# Altium footprint library PcbLib1.PcbLib: 8 footprints
Each footprint in its own frame and in the unit in brackets; x right, y up, seen from the top. Pads: shape width x height; smd on the part's side, far side on the other; paste and mask are expansions set on the pad; w line width, h text height; cw(c..) or ccw(c..) is an arc to the next point about the centre after c.
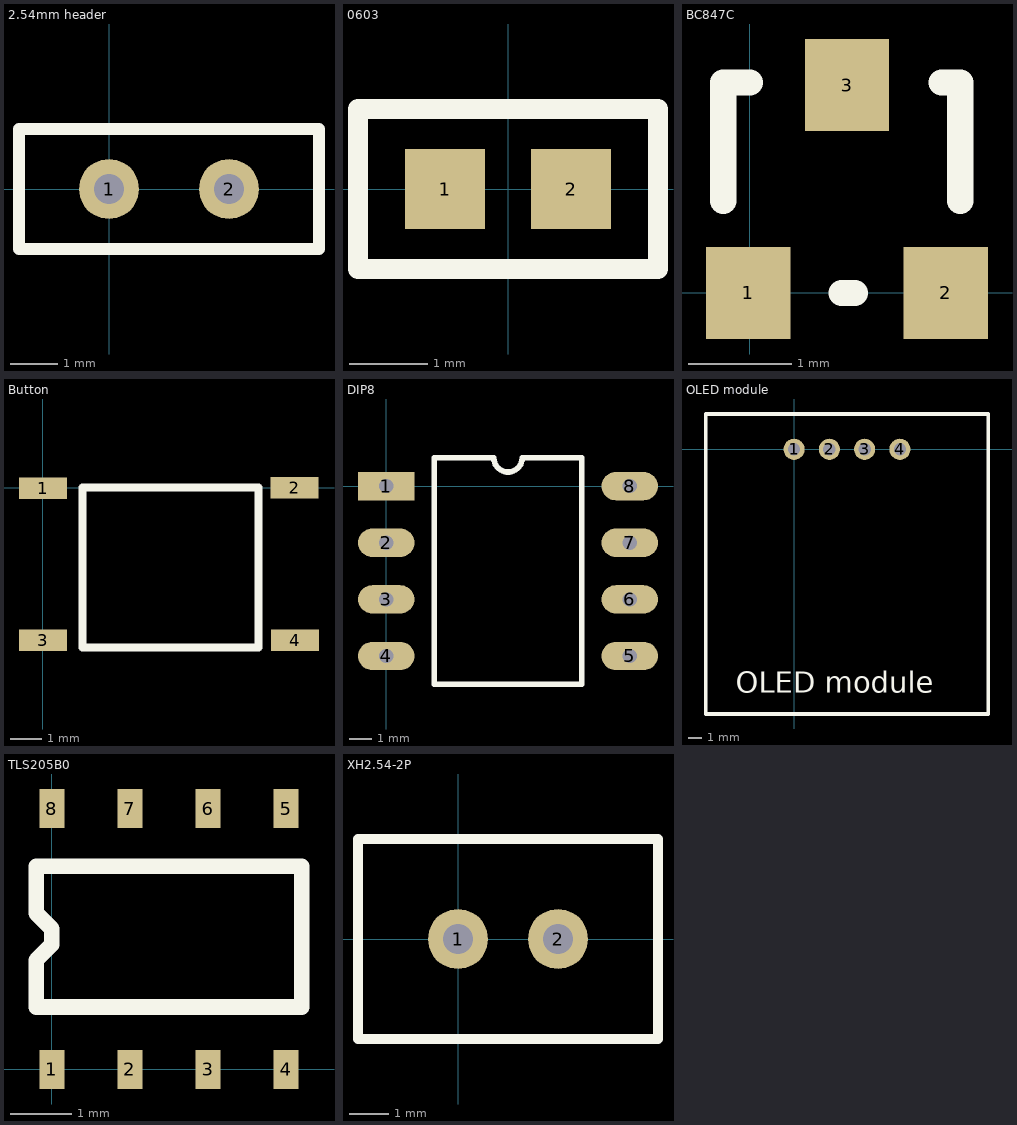
[diagram p0: the footprints below, top view; thin cyan lines are the x and y axes]

## 2.54mm header [mil]
pads (2):
  round 50 hole 25: 1(0,0) 2(100,0)
Top Overlay:
  lines w10: -75,-50 -75,50 175,50 175,-50 -75,-50

## 0603 [mil]
pads (2):
  rect 40x40 smd: 1(-31.5,0) 2(31.5,0)
Top Overlay:
  lines w10: -75,-40 75,-40 75,40 -75,40 -75,-6.5 -75,-40

## BC847C [mil] "https://jlcpcb.com/partdetail/Hongjiacheng-BC847C/C7420337"
pads (3):
  rect 32x35 smd paste-99999 mask+4: 1(-0.5,0) 2(74.5,0) 3(37,79)
Top Overlay:
  lines w10: -10,35 -10,80 0,80 ; 35,0 40,0 ; 73,80 80,80 80,35

## Button [mil] "https://jlcpcb.com/partdetail/Yiyuan-YTS1R0032CBG00/C3001435"
pads (4):
  rect 60x27 smd paste-99999 mask+4: 1(0.41,-0.96) 2(315,0) 3(0.41,-190.96) 4(315.41,-190.96)
Top Overlay:
  lines w10: 50,-200 270,-200 270,0 50,0 50,-200

## DIP8 [mil]
pads (8):
  rect 100x50 hole 25: 1(0,0)
  oval 100x50 hole 25: 2(0,-100) 3(0,-200) 4(0,-300) 5(430,-300) 6(430,-200) 7(430,-100) 8(430,0)
Top Overlay:
  lines w10: 85,-350 345,-350 345,50 240,50 cw(c215,50) 190,50 85,50 85,-350

## OLED module [mil]
pads (4):
  round 60 hole 35: 1(0,0) 2(100,0) 3(200,0) 4(300,0)
Top Overlay:
  lines w10: -250,-750 550,-750 550,100 -250,100 -250,-750
  text "OLED module" at -165,-690 h60

## TLS205B0 [mil] "https://wmsc.lcsc.com/wmsc/upload/file/pdf/v2/lcsc/2401161412_Infineon-Technologies-TLS205B0EJV50XUMA1_C3747247.pdf"
pads (8):
  rect 16x25 smd paste-99999 mask+4: 1(0,0) 2(50,0) 3(100,0) 4(150,0) 5(150,167) 6(100,167) 7(50,167) 8(0,167)
Top Overlay:
  lines w10: -10,40 -10,70 0,80 0,90 -10,100 -10,130 160,130 160,40 -10,40

## XH2.54-2P [mil]
pads (2):
  round 60 hole 30: 1(0,0) 2(100,0)
Top Overlay:
  lines w10: -100,-100 -100,100 200,100 200,-100 -100,-100